# Altium footprint library drvs-motor.PcbLib: 70 footprints (part 1 of 5)
Each footprint in its own frame and in the unit in brackets; x right, y up, seen from the top. Pads: shape width x height; smd on the part's side, far side on the other; paste and mask are expansions set on the pad; w line width, h text height; cw(c..) or ccw(c..) is an arc to the next point about the centre after c.
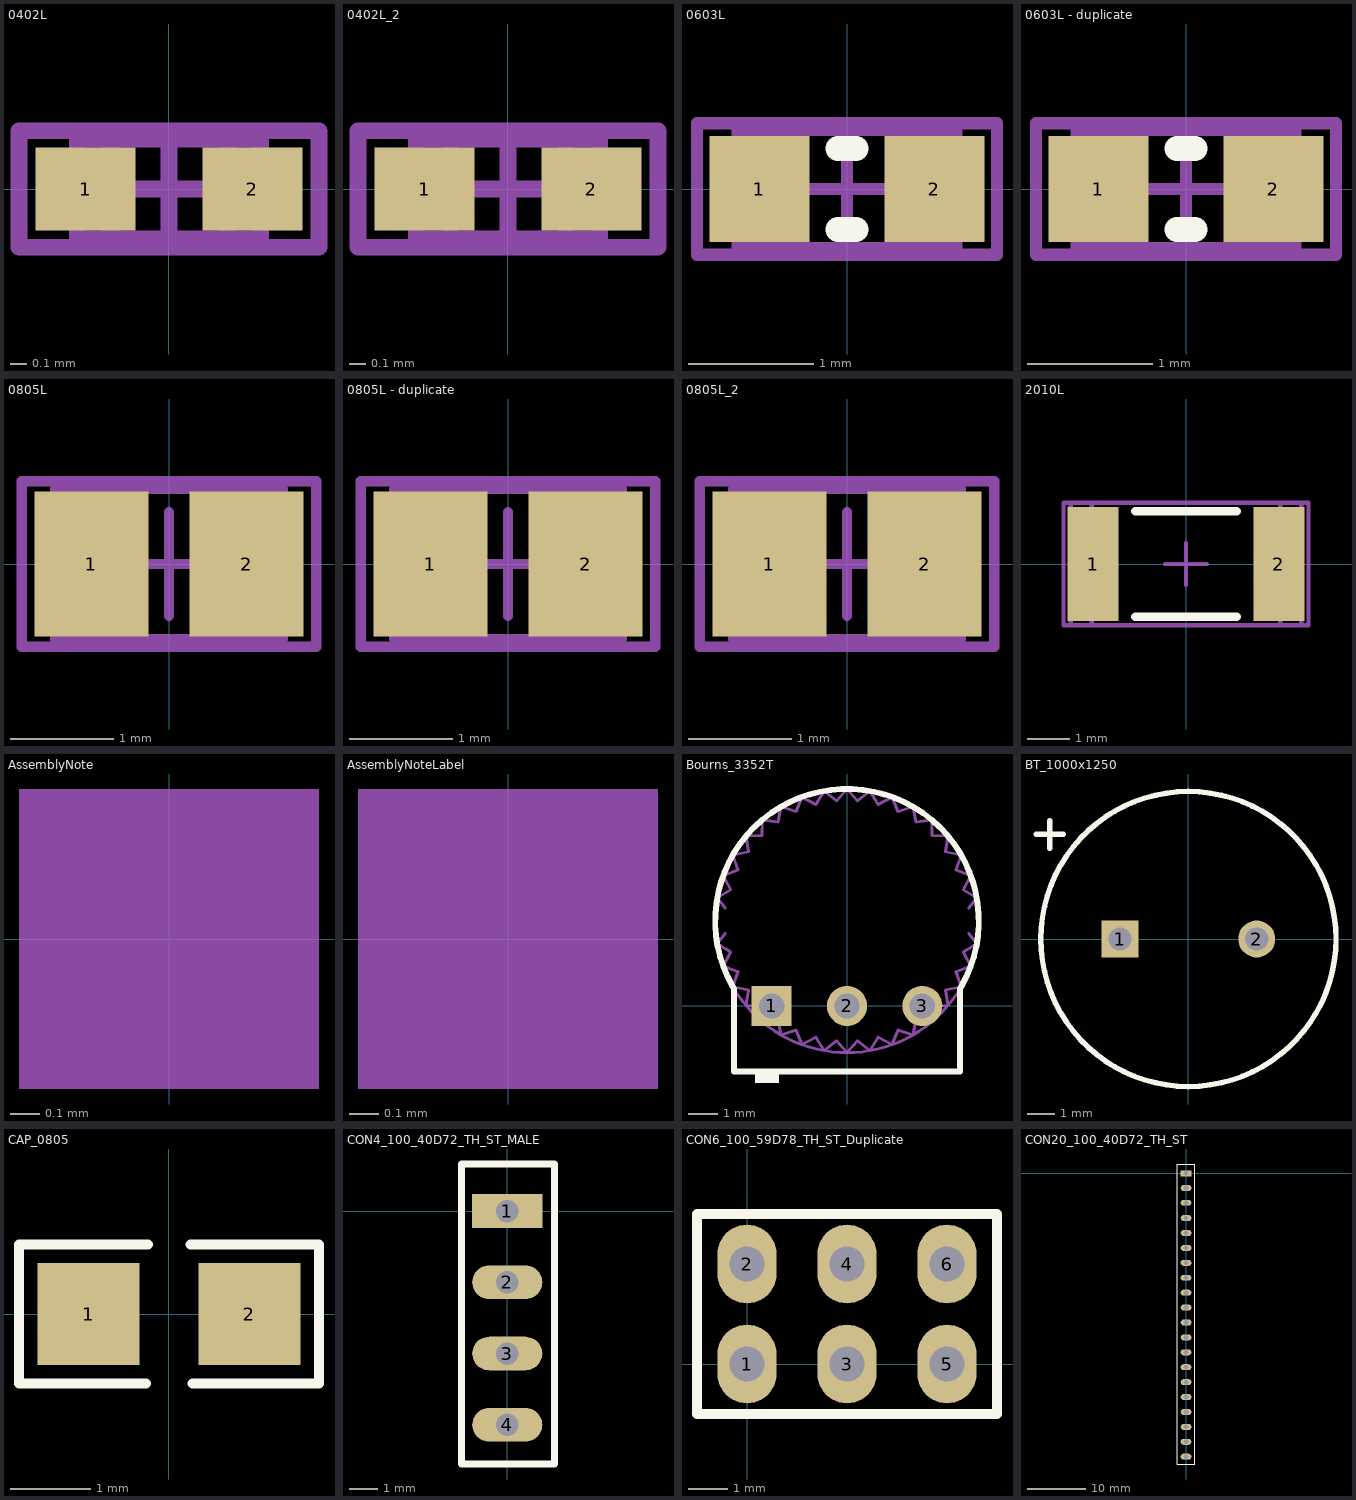
[diagram p0: the footprints below, top view; thin cyan lines are the x and y axes]

## 0402L [mm]
pads (2):
  rect 0.6x0.5 smd: 1(-0.5,0) 2(0.5,0)
Mechanical 5:
  lines w0.1: -0.9,-0.35 -0.9,0.35 0.9,0.35 0.9,-0.35 -0.9,-0.35
  text ".Designator" at -0.775,-0.225 h0.43
Mechanical 13:
  lines w0.1: -0.35,-0.3 -0.35,0.3 ; 0.35,-0.3 0.35,0.3 ; -0.55,-0.3 0.55,-0.3 0.55,0.3 -0.55,0.3 -0.55,-0.3
Mechanical 15:
  lines w0.1: -0.3,0 0.3,0 ; 0,-0.3 0,0.3 ; -0.9,-0.35 0.9,-0.35 0.9,0.35 -0.9,0.35 -0.9,-0.35
3D body: height 0.6, standoff 0, extent 0.351,-0.299 0.549,0.299
3D body: height 0.6, standoff 0, extent -0.349,-0.299 0.349,0.299
3D body: height 0.6, standoff 0, extent -0.549,-0.299 -0.351,0.299

## 0402L_2 [mm]
pads (2):
  rect 0.6x0.5 smd: 1(-0.5,0) 2(0.5,0)
Mechanical 5:
  lines w0.1: -0.9,-0.35 -0.9,0.35 0.9,0.35 0.9,-0.35 -0.9,-0.35
  text ".Designator" at -0.775,-0.225 h0.43
Mechanical 13:
  lines w0.1: -0.35,-0.3 -0.35,0.3 ; 0.35,-0.3 0.35,0.3 ; -0.55,-0.3 0.55,-0.3 0.55,0.3 -0.55,0.3 -0.55,-0.3
Mechanical 15:
  lines w0.1: -0.3,0 0.3,0 ; 0,-0.3 0,0.3 ; -0.9,-0.35 0.9,-0.35 0.9,0.35 -0.9,0.35 -0.9,-0.35
3D body: height 0.6, standoff 0, extent 0.351,-0.299 0.549,0.299
3D body: height 0.6, standoff 0, extent -0.349,-0.299 0.349,0.299
3D body: height 0.6, standoff 0, extent -0.549,-0.299 -0.351,0.299

## 0603L [mm]
pads (2):
  rect 0.8x0.85 smd: 1(-0.7,0) 2(0.7,0)
Top Overlay:
  lines w0.2: -0.071,-0.325 0.071,-0.325 ; -0.071,0.325 0.071,0.325
Mechanical 5:
  lines w0.1: -1.2,-0.525 1.2,-0.525 1.2,0.525 -1.2,0.525 -1.2,-0.525
  text ".Designator" at -1.05,-0.275 h0.56
Mechanical 13:
  lines w0.1: -0.55,-0.475 -0.55,0.475 ; 0.55,-0.475 0.55,0.475 ; -0.875,-0.475 0.875,-0.475 0.875,0.475 -0.875,0.475 -0.875,-0.475
Mechanical 15:
  lines w0.1: -0.475,0 0.475,0 ; 0,-0.475 0,0.475 ; -1.2,-0.525 -1.2,0.525 1.2,0.525 1.2,-0.525 -1.2,-0.525
3D body: height 1, standoff 0, extent -0.874,-0.474 -0.551,0.474
3D body: height 1, standoff 0, extent -0.549,-0.474 0.549,0.474
3D body: height 1, standoff 0, extent 0.551,-0.474 0.874,0.474

## 0603L - duplicate [mm]
pads (2):
  rect 0.8x0.85 smd: 1(-0.7,0) 2(0.7,0)
Top Overlay:
  lines w0.2: -0.071,-0.325 0.071,-0.325 ; -0.071,0.325 0.071,0.325
Mechanical 5:
  lines w0.1: -1.2,-0.525 1.2,-0.525 1.2,0.525 -1.2,0.525 -1.2,-0.525
  text ".Designator" at -1.05,-0.275 h0.56
Mechanical 13:
  lines w0.1: -0.55,-0.475 -0.55,0.475 ; 0.55,-0.475 0.55,0.475 ; -0.875,-0.475 0.875,-0.475 0.875,0.475 -0.875,0.475 -0.875,-0.475
Mechanical 15:
  lines w0.1: -0.475,0 0.475,0 ; 0,-0.475 0,0.475 ; -1.2,-0.525 -1.2,0.525 1.2,0.525 1.2,-0.525 -1.2,-0.525
3D body: height 0.85, standoff 0, extent -0.874,-0.474 -0.551,0.474
3D body: height 0.85, standoff 0, extent -0.549,-0.474 0.549,0.474
3D body: height 0.85, standoff 0, extent 0.551,-0.474 0.874,0.474

## 0805L [mm]
pads (2):
  rect 1.1x1.4 smd: 1(-0.75,0) 2(0.75,0)
Mechanical 5:
  lines w0.1: -1.425,-0.8 -1.425,0.8 1.425,0.8 1.425,-0.8 -1.425,-0.8
  text ".Designator" at -1.2,-0.325 h0.64
Mechanical 13:
  lines w0.1: -0.65,-0.725 -0.65,0.725 ; 0.65,-0.725 0.65,0.725 ; -1.1,-0.725 1.1,-0.725 1.1,0.725 -1.1,0.725 -1.1,-0.725
Mechanical 15:
  lines w0.1: -0.5,0 0.5,0 ; 0,-0.5 0,0.5 ; -1.425,-0.8 1.425,-0.8 1.425,0.8 -1.425,0.8 -1.425,-0.8
3D body: height 1.45, standoff 0, extent -1.099,-0.724 -0.651,0.724
3D body: height 1.45, standoff 0, extent -0.649,-0.724 0.649,0.724
3D body: height 1.45, standoff 0, extent 0.651,-0.724 1.099,0.724

## 0805L - duplicate [mm]
pads (2):
  rect 1.1x1.4 smd: 1(-0.75,0) 2(0.75,0)
Mechanical 5:
  lines w0.1: -1.425,-0.8 1.425,-0.8 1.425,0.8 -1.425,0.8 -1.425,-0.8
  text ".Designator" at -1.2,-0.325 h0.64
Mechanical 13:
  lines w0.1: -0.65,-0.725 -0.65,0.725 ; 0.65,-0.725 0.65,0.725 ; -1.1,-0.725 1.1,-0.725 1.1,0.725 -1.1,0.725 -1.1,-0.725
Mechanical 15:
  lines w0.1: -0.5,0 0.5,0 ; 0,-0.5 0,0.5 ; -1.425,-0.8 -1.425,0.8 1.425,0.8 1.425,-0.8 -1.425,-0.8
3D body: height 1.1, standoff 0, extent -1.099,-0.724 -0.651,0.724
3D body: height 1.1, standoff 0, extent -0.649,-0.724 0.649,0.724
3D body: height 1.1, standoff 0, extent 0.651,-0.724 1.099,0.724

## 0805L_2 [mm]
pads (2):
  rect 1.1x1.4 smd: 1(-0.75,0) 2(0.75,0)
Mechanical 5:
  lines w0.1: -1.425,-0.8 -1.425,0.8 1.425,0.8 1.425,-0.8 -1.425,-0.8
  text ".Designator" at -1.2,-0.325 h0.64
Mechanical 13:
  lines w0.1: -0.65,-0.725 -0.65,0.725 ; 0.65,-0.725 0.65,0.725 ; -1.1,-0.725 -1.1,0.725 1.1,0.725 1.1,-0.725 -1.1,-0.725
Mechanical 15:
  lines w0.1: -0.5,0 0.5,0 ; 0,-0.5 0,0.5 ; -1.425,-0.8 1.425,-0.8 1.425,0.8 -1.425,0.8 -1.425,-0.8
3D body: height 1.1, standoff 0, extent 0.651,-0.724 1.099,0.724
3D body: height 1.1, standoff 0, extent -0.649,-0.724 0.649,0.724
3D body: height 1.1, standoff 0, extent -1.099,-0.724 -0.651,0.724

## 2010L [mm]
pads (2):
  rect 1.2x2.7 smd: 1(-2.2,0) 2(2.2,0)
Top Overlay:
  lines w0.2: -1.2,-1.25 1.2,-1.25 ; -1.2,1.25 1.2,1.25
Mechanical 5:
  lines w0.1: -2.73,-1.45 2.73,-1.45 2.73,1.45 -2.73,1.45 -2.73,-1.45
  text ".Designator" at -1.875,-0.5 h1.02
Mechanical 13:
  lines w0.1: -2.23,-1.45 -2.23,1.45 ; 2.23,-1.45 2.23,1.45 ; -2.73,-1.45 -2.73,1.45 2.73,1.45 2.73,-1.45 -2.73,-1.45
Mechanical 15:
  lines w0.1: -0.5,0 0.5,0 ; 0,-0.5 0,0.5 ; -2.9,-1.45 2.9,-1.45 2.9,1.45 -2.9,1.45 -2.9,-1.45
3D body: height 1.66, standoff 0, extent 2.231,-1.449 2.729,1.449
3D body: height 1.66, standoff 0, extent -2.229,-1.449 2.229,1.449
3D body: height 1.66, standoff 0, extent -2.729,-1.449 -2.231,1.449

## AssemblyNote [mm]
Mechanical 5:
  rectangle: -0.508,-0.508 0.508,0.508
  text ".Comment" at 1.143,-0.508 h1.02
  text ".Designator" at -4.191,-0.508 h1.02

## AssemblyNoteLabel [mm]
Mechanical 5:
  rectangle: -0.508,-0.508 0.508,0.508
  text ".Designator" at -4.191,-0.508 h1.02
  text "Install label in silkscreened box after final wash.  Text shall be 8 pt font.  Text shall be per the Label Table in the PDF schematic." at 1.143,-0.508 h1.02

## Bourns_3352T [mm]
pads (3):
  rect 1.35x1.35 hole 0.85: 1(-2.54,0)
  round 1.35 hole 0.85: 2(0,0) 3(2.54,0)
Top Overlay:
  region: -2.3,-2.6 -2.3,-2.2 -3.1,-2.2 -3.1,-2.6
  lines w0.2: -3.849,0.647 cw(c0,2.87) 3.849,0.647 ; -3.81,0.58 -3.81,-2.21 3.81,-2.21 3.81,0.58
Mechanical 5:
  lines w0.1: -4.105,2.44 -4.377,2.098 ; -4.105,3.3 -4.377,3.642 ; -3.81,0.58 -3.81,-2.21 3.81,-2.21 3.81,0.58 ; 4.105,2.44 4.377,2.098 ; 4.105,3.3 4.377,3.642 ; -4.377,2.098 cw(c0,2.87) -4.377,3.642 ; -4.377,2.098 ccw(c0,2.87) -4.177,1.35 ; -4.377,2.098 -3.922,1.819 -4.177,1.35 ; -4.377,3.642 cw(c0,2.87) -4.177,4.39 ; -4.377,3.642 -3.922,3.921 -4.177,4.39 ; -4.177,1.35 ccw(c0,2.87) -3.849,0.647 ; -4.177,1.35 -3.68,1.154 -3.849,0.647 ; -4.177,4.39 cw(c0,2.87) -3.849,5.093 ; -4.177,4.39 -3.68,4.586 -3.849,5.092 ; -3.849,0.647 ccw(c0,2.87) -3.405,0.013 ; -3.849,0.647 -3.326,0.541 -3.405,0.013 ; -3.849,5.093 cw(c0,2.87) -3.405,5.727 ; -3.849,5.092 -3.326,5.199 -3.405,5.727 ; -3.405,0.013 ccw(c0,2.87) -2.857,-0.535 ; -3.405,0.013 -2.871,-0.001 -2.857,-0.535 ; -3.405,5.727 cw(c0,2.87) -2.857,6.275 ; -3.405,5.727 -2.871,5.741 -2.857,6.275 ; -2.857,-0.535 ccw(c0,2.87) -2.223,-0.979 ; -2.857,-0.535 -2.329,-0.456 -2.222,-0.979 ; -2.857,6.275 cw(c0,2.87) -2.223,6.719 ; -2.857,6.275 -2.329,6.196 -2.222,6.719 ; -2.223,-0.979 ccw(c0,2.87) -1.52,-1.307 ; -2.222,-0.979 -1.716,-0.81 -1.52,-1.307 ; -2.223,6.719 cw(c0,2.87) -1.52,7.047 ; -2.222,6.719 -1.716,6.55 -1.52,7.047 ; -1.52,-1.307 ccw(c0,2.87) -0.772,-1.507 ; -1.52,-1.307 -1.051,-1.052 -0.772,-1.507 ; -1.52,7.047 cw(c0,2.87) -0.772,7.247 ; -1.52,7.047 -1.051,6.792 -0.772,7.247 ; -0.772,-1.507 ccw(c0,2.87) 0,-1.575 ; -0.772,-1.507 -0.354,-1.175 0,-1.575 ; -0.772,7.247 cw(c0,2.87) 0,7.315 ; -0.772,7.247 -0.354,6.915 0,7.315 ; 0,-1.575 ccw(c0,2.87) 0.772,-1.507 ; 0,-1.575 0.354,-1.175 0.772,-1.507 ; 0,7.315 cw(c0,2.87) 0.772,7.247 ; 0,7.315 0.354,6.915 0.772,7.247 ; 0.772,-1.507 ccw(c0,2.87) 1.52,-1.307 ; 0.772,-1.507 1.051,-1.052 1.52,-1.307 ; 0.772,7.247 cw(c0,2.87) 1.52,7.047 ; 0.772,7.247 1.051,6.792 1.52,7.047 ; 1.52,-1.307 ccw(c0,2.87) 2.223,-0.979 ; 1.52,-1.307 1.716,-0.81 2.222,-0.979 ; 1.52,7.047 cw(c0,2.87) 2.223,6.719 ; 1.52,7.047 1.716,6.55 2.222,6.719 ; 2.223,-0.979 ccw(c0,2.87) 2.857,-0.535 ; 2.222,-0.979 2.329,-0.456 2.857,-0.535 ; 2.223,6.719 cw(c0,2.87) 2.857,6.275 ; 2.222,6.719 2.329,6.196 2.857,6.275 ; 2.857,-0.535 ccw(c0,2.87) 3.405,0.013 ; 2.857,-0.535 2.871,-0.001 3.405,0.013 ; 2.857,6.275 cw(c0,2.87) 3.405,5.727 ; 2.857,6.275 2.871,5.741 3.405,5.727 ; 3.405,0.013 ccw(c0,2.87) 3.849,0.647 ; 3.405,0.013 3.326,0.541 3.849,0.647 ; 3.405,5.727 cw(c0,2.87) 3.849,5.093 ; 3.405,5.727 3.326,5.199 3.849,5.092 ; 3.849,0.647 ccw(c0,2.87) 4.177,1.35 ; 3.849,0.647 3.68,1.154 4.177,1.35 ; 3.849,5.093 cw(c0,2.87) 4.177,4.39 ; 3.849,5.092 3.68,4.586 4.177,4.39 ; 4.177,1.35 ccw(c0,2.87) 4.377,2.098 ; 4.177,1.35 3.922,1.819 4.377,2.098 ; 4.177,4.39 cw(c0,2.87) 4.377,3.642 ; 4.177,4.39 3.922,3.921 4.377,3.642 ; 4.377,2.098 ccw(c0,2.87) 4.377,3.642
  text ".Designator" at -2,2 h1.02
3D body "3352T.stp": height 3.81, standoff -4.75, extent -4.445,-2.21 4.445,7.315

## BT_1000x1250 [mm]
pads (2):
  rect 1.35x1.35 hole 0.85 paste+0: 1(-2.5,0)
  round 1.35 hole 0.85 paste+0: 2(2.5,0)
Top Overlay:
  circle w0.2: c0,0 r5.4
  lines w0.2: -5.578,3.827 -4.576,3.827 ; -5.077,3.326 -5.077,4.328
Mechanical 5:
  circle w0.1: c0,0 r5.4
  rectangle: -3.053,-0.54 -1.971,0.554
  text ".Designator" at -1.7,-0.4 h1.02
3D body "BT_1000x1250.stp": height 14.51, standoff -4, extent -5.358,-5.391 5.39,5.391

## CAP_0805 [mm] "Ceramic Capacitor"
height 0.7
pads (2):
  rect 1.27x1.27 smd mask+0.076: 1(-1,0) 2(1,0)
Top Overlay:
  lines w0.127: -0.289,-0.864 -1.864,-0.864 -1.864,0.864 -0.263,0.864 ; 0.27,0.864 1.845,0.864 ; 0.295,-0.864 1.845,-0.864 ; 1.864,-0.864 1.864,0.864
3D body "0805 SMD Capacitor.STEP": height 0.78, standoff 0, extent -1,-0.625 1,0.625

## CON4_100_40D72_TH_ST_MALE [mm] "Berg Strip"
height 11.5
pads (4):
  rect 2.5x1.2 hole 0.8: 1(0,0)
  oval 2.5x1.2 hole 0.8: 2(0,-2.54) 3(0,-5.08) 4(0,-7.62)
Top Overlay:
  lines w0.254: -1.626,-9.017 -1.626,1.676 1.676,1.676 1.676,0.914 1.676,-9.017 -1.626,-9.017
3D body "65781.stp": height 8.55, standoff -2.99, extent -1.143,-8.763 1.397,1.397

## CON6_100_59D78_TH_ST_Duplicate [mm] "Berg strip"
height 10
pads (6):
  oval 1.5x2 hole 0.9: 1(0,0) 2(0,2.54) 3(2.54,0) 4(2.54,2.54) 5(5.08,0) 6(5.08,2.54)
Top Overlay:
  lines w0.254: -1.27,-1.27 6.35,-1.27 6.35,3.81 -1.27,3.81 -1.27,-1.27
3D body "77313-118-06lf.stp": height 8.18, standoff -3.32, extent -1.07,-1.27 6.15,3.56

## CON20_100_40D72_TH_ST [mil] "Berg strip"
height 393.7
pads (20):
  rect 72x40 hole 31.5: 1(0,0)
  oval 72x40 hole 31.5: 2(0,-98.43) 3(0,-196.85) 4(0,-300) 5(0,-400) 6(0,-500) 7(0,-600) 8(0,-700) 9(0,-800) 10(0,-900) 11(0,-1000) 12(0,-1100) 13(0,-1200) 14(0,-1300) 15(0,-1400) 16(0,-1500) 17(0,-1600) 18(0,-1700) 19(0,-1800) 20(0,-1900)
Top Overlay:
  lines w7.87: -58,-1949 57,-1949 57,62.99 -58,62.99 -58,-1949
3D body "pin_header_aw_109_20-t.stp": height 322.83, standoff -118.11, extent -51.14,-1949 47.14,51